# EAGLE library part 418121270805 (library Wurth_Elektronik_Electromechanic_Switch_rev16b)
WS-DISV SMD version raise actuator without top tape sealed Specification Contact Rating Switching :25mA, 24VDC Non-Switching : 100mA, 50VDC Contact Resistance Initial: 50mΩ max. After life test: 100mΩ max. Insulation Resistance: min.100MΩ at 500VDC Dielectric Strength : 500VAC for 1 minute Operation Force :600g max. Mechanical Life : 2000 cycles Electrical Life : 2000 cycles / 25mA, 24VDC Raise Actuator type Material Cover : : PA9T UL 94 V-0, color Black Base :PA9T UL 94 V-0, color Black. Actuator :PA46 UL 94 V-0, color White Contact : : Gold Plated Terminal : Gold Plated <http://katalog.we-online.de/media/images/v2/Family_WS_IC_4181212708xx_pf2.jpg> Details see: http://katalog.we-online.de/en/em/DISV_2_54_SMALL_COMPACT_SMD_WITH_RAISED_ACTUATOR 2015 (C) Wurth Elektronik
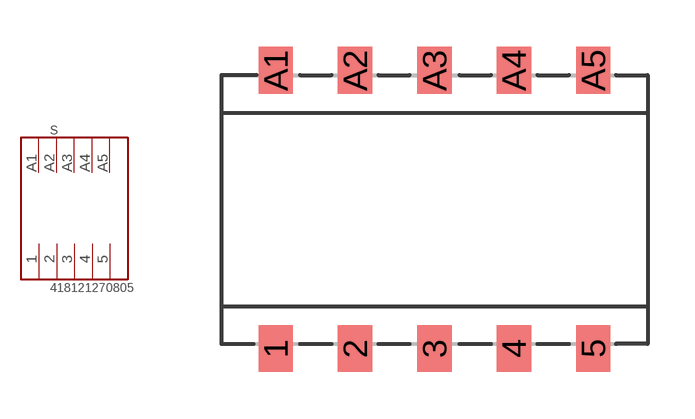
[diagram p174: symbol with the pads of 418121270805; footprint 418121270805]

Designator prefix S

## 418121270805  [418121270805]
1  1  pas
2  2  pas
3  3  pas
4  4  pas
5  5  pas
A1  A1  pas
A2  A2  pas
A3  A3  pas
A4  A4  pas
A5  A5  pas

## Footprint 418121270805 (pad centres in mm)
smd 1.1 x 1.5: 1 -5.08,-4.45; 2 -2.54,-4.45; 3 0,-4.45; 4 2.54,-4.45; 5 5.08,-4.45; A1 -5.08,4.45; A2 -2.54,4.45; A3 0,4.45; A4 2.54,4.45; A5 5.08,4.45